# EAGLE library part VIA_8 (library myFab)
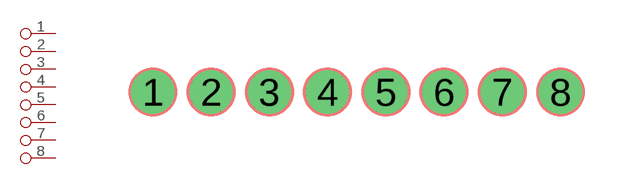
[diagram p33: symbol with the pads of VIA_8; footprint VIA_8]

Designator prefix -

## VIA_8  [VIA_8]
1  1
2  2
3  3
4  4
5  5
6  6
7  7
8  8

## Footprint VIA_8 (pad centres in mm)
drill 1.016 pad 1.88: 1 0,0; 2 2.54,0; 3 5.08,0; 4 7.62,0; 5 10.16,0; 6 12.7,0; 7 15.24,0; 8 17.78,0